# EAGLE library part LIB1 (library mcp4725_alberto)
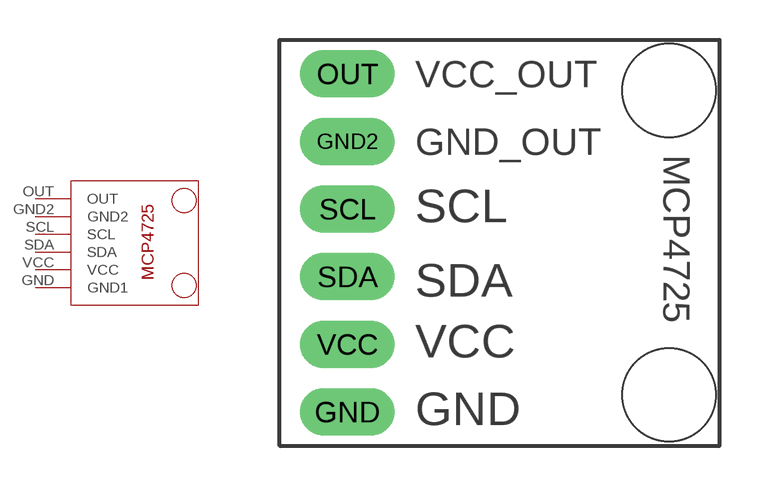
[diagram p0: symbol with the pads of LIB1; footprint LIB1]

Designator prefix -

## LIB1MCP4725_ABF  [LIB1]
GND  GND1
GND2  GND2
OUT  OUT
SCL  SCL
SDA  SDA
VCC  VCC

## Footprint LIB1 (pad centres in mm)
drill 1.143 pad 1.778 long: GND 1.27,1.27; GND2 1.27,11.43; OUT 1.27,13.97; SCL 1.27,8.89; SDA 1.27,6.35; VCC 1.27,3.81